# EAGLE library part TPS2552 (library balto)
Precision adjustable current limited power distribution switch
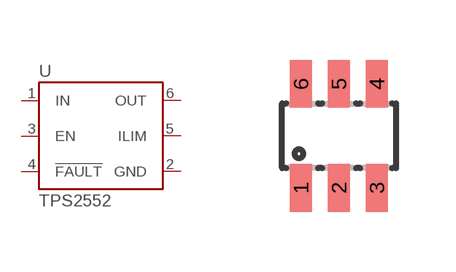
[diagram p35: symbol with the pads of SOT23-6L; footprint SOT23-6L]

Designator prefix U

## TPS2552  [SOT23-6L]
1  IN
2  GND
3  EN
4  !FAULT
5  ILIM
6  OUT

## Footprint SOT23-6L (pad centres in mm)
Small Outline Transistor
smd 0.55 x 1.2: 1 -0.95,-1.3; 2 0,-1.3; 3 0.95,-1.3; 4 0.95,1.3; 5 0,1.3; 6 -0.95,1.3